# EAGLE library part PIC12LF1572 (library PIC12LF1572)
PIC12(L)F1571/2 8-Bit Mikrocontroller - MCU 1.75KB 128 RAM 16- bit PWM Comparator
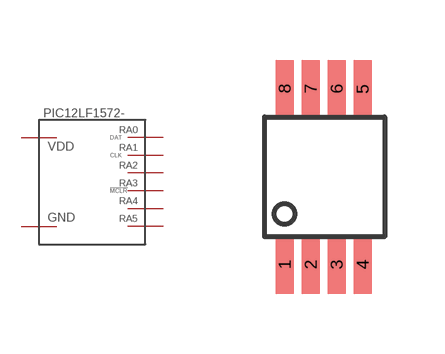
[diagram p0: symbol with the pads of MSOP-8; footprint MSOP-8]

Designator prefix PIC12LF1572-

## PIC12LF1572  [MSOP-8]
1  VDD
2  RA5
3  RA4
4  RA3
5  RA2
6  RA1
7  RA0
8  GND

## Footprint MSOP-8 (pad centres in mm)
smd 0.45 x 1.45: 1 0,0; 2 0.65,0; 3 1.3,0; 4 1.95,0; 5 1.95,4.4; 6 1.3,4.4; 7 0.65,4.4; 8 0,4.4